# Altium footprint library LED.PcbLib: 5 footprints
Each footprint in its own frame and in the unit in brackets; x right, y up, seen from the top. Pads: shape width x height; smd on the part's side, far side on the other; paste and mask are expansions set on the pad; w line width, h text height; cw(c..) or ccw(c..) is an arc to the next point about the centre after c.
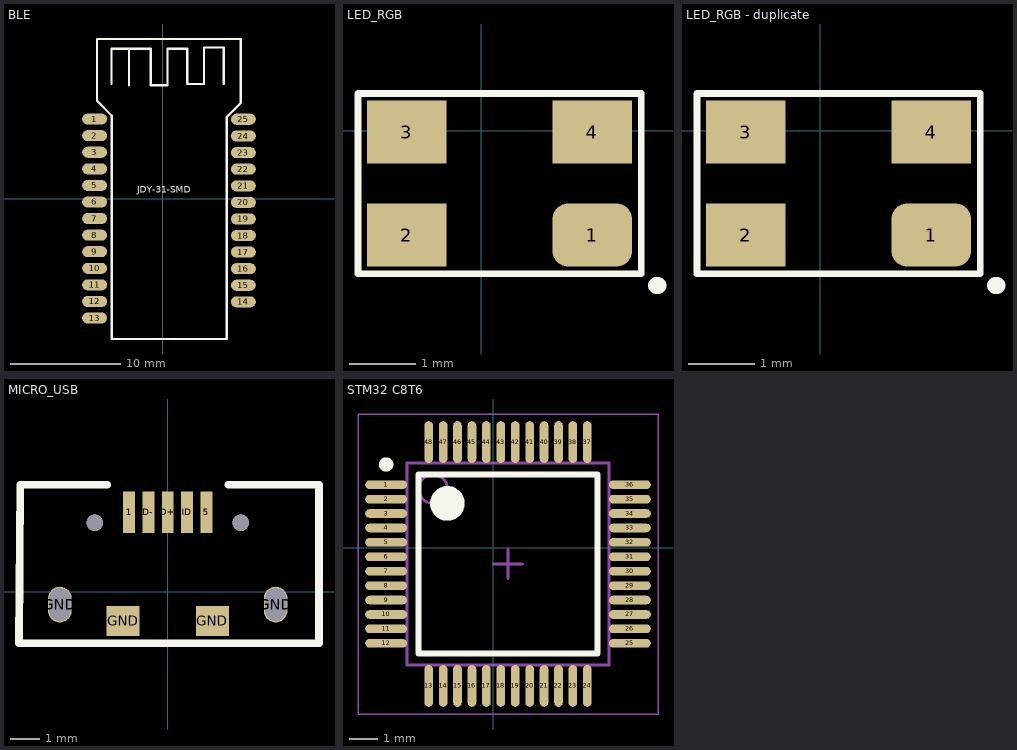
[diagram p0: the footprints below, top view; thin cyan lines are the x and y axes]

## BLE [mil]
pads (25):
  oval 88.74x39.37 smd: 1(-243,284) 2(-243,224.94) 3(-243,165.89) 4(-243,106.83) 5(-243,47.78) 6(-243,-11.28) 7(-243,-70.33) 8(-243,-129.39) 9(-243,-188.44) 10(-243,-247.5) 11(-243,-306.55) 12(-243,-365.61) 13(-243,-424.66) 14(287,-366.94) 15(287,-307.89) 16(287,-248.83) 17(287,-189.78) 18(287,-130.72) 19(287,-71.67) 20(287,-12.61) 21(287,46.44) 22(287,105.5) 23(287,164.55) 24(287,223.61) 25(287,283.57)
Top Overlay:
  lines w7.87: -183.25,409.57 -183.25,534.57 -113.25,534.57 -43.25,534.57 -43.25,404.57 16.75,404.57 16.75,534.57 86.75,534.57 86.75,409.57 146.75,409.57 146.75,539.57 216.75,539.57 216.75,409.57 ; -182.25,-443.56 -182.25,296.44 -234.06,348.25 -234.06,569.43 277.75,569.43 277.75,341.44 227.75,291.44 227.75,-443.56 ; -121,404.57 -121,534.57
  lines w8: -182.25,-443.56 -182.25,-499.43 227.75,-499.43 227.75,-443.56
  text "JDY-31-SMD" at -92,21.57 h23.62

## LED_RGB [mm]
pads (4):
  rrect50% 1.2x0.95 smd: 1(1.676,-1.575)
  rect 1.2x0.95 smd: 2(-1.118,-1.575) 3(-1.118,-0.025) 4(1.676,-0.025)
Top Overlay:
  lines w0.1: -1.854,-2.159 2.413,-2.159 2.413,0.559 -1.854,0.559 -1.854,-2.159
  lines w0.254: 2.642,-2.337 2.667,-2.337

## LED_RGB - duplicate [mm]
pads (4):
  rrect50% 1.2x0.95 smd: 1(1.676,-1.575)
  rect 1.2x0.95 smd: 2(-1.118,-1.575) 3(-1.118,-0.025) 4(1.676,-0.025)
Top Overlay:
  lines w0.1: -1.854,-2.159 2.413,-2.159 2.413,0.559 -1.854,0.559 -1.854,-2.159
  lines w0.254: 2.642,-2.337 2.667,-2.337

## MICRO_USB [mm]
pads (9):
  rect 0.4x1.4 smd: 1(-1.3,2.678) 5(1.3,2.678) D+(0,2.678) D-(-0.65,2.678) ID(0.65,2.678)
  oval 0.8x1.2 hole 0.7 slot 1.1 at 90 deg: GND(-3.625,-0.422) GND(3.625,-0.422)
  rect 1.1x1 smd: GND(-1.5,-0.972) GND(1.5,-0.972)
via -2.45,2.328 diameter 0.55 hole 0.55
via 2.45,2.328 diameter 0.55 hole 0.55
Top Overlay:
  lines w0.254: -2.032,3.607 -4.953,3.607 -4.995,-1.727 5.08,-1.727 5.08,3.607 2.032,3.607

## STM32 C8T6 [mm]
pads (48):
  oval 1.45x0.3 smd: 1(-3.717,2.191) 2(-3.717,1.691) 3(-3.717,1.191) 4(-3.717,0.691) 5(-3.717,0.191) 6(-3.717,-0.309) 7(-3.717,-0.809) 8(-3.717,-1.309) 9(-3.717,-1.809) 10(-3.717,-2.309) 11(-3.717,-2.809) 12(-3.717,-3.309) 25(4.733,-3.309) 26(4.733,-2.809) 27(4.733,-2.309) 28(4.733,-1.809) 29(4.733,-1.309) 30(4.733,-0.809) 31(4.733,-0.309) 32(4.733,0.191) 33(4.733,0.691) 34(4.733,1.191) 35(4.733,1.691) 36(4.733,2.191)
  oval 0.3x1.45 smd: 13(-2.242,-4.784) 14(-1.742,-4.784) 15(-1.242,-4.784) 16(-0.742,-4.784) 17(-0.242,-4.784) 18(0.258,-4.784) 19(0.758,-4.784) 20(1.258,-4.784) 21(1.758,-4.784) 22(2.258,-4.784) 23(2.758,-4.784) 24(3.258,-4.784) 37(3.258,3.666) 38(2.758,3.666) 39(2.258,3.666) 40(1.758,3.666) 41(1.258,3.666) 42(0.758,3.666) 43(0.258,3.666) 44(-0.242,3.666) 45(-0.742,3.666) 46(-1.242,3.666) 47(-1.742,3.666) 48(-2.242,3.666)
Top Overlay:
  circle w0.6: c-1.592,1.541 r0.3
  circle w0.25: c-3.717,2.891 r0.125
  lines w0.2: -2.592,-3.659 3.608,-3.659 3.608,2.541 -2.592,2.541 -2.592,-3.659
Assembly Top:
  circle w0.1: c-2.092,2.041 r0.5
  lines w0.1: -2.992,-4.059 4.008,-4.059 4.008,2.941 -2.992,2.941 -2.992,-4.059
Courtyard Top:
  lines w0.05: -4.692,-5.759 5.708,-5.759 5.708,4.641 -4.692,4.641 -4.692,-5.759
  lines w0.1: 0.008,-0.559 1.008,-0.559 ; 0.508,-1.059 0.508,-0.059
3D body: height 1.6, standoff 0.05, extent -2.992,-4.059 4.008,2.941